# Altium integrated library MMZ1608S601ATA00.IntLib: 1 symbol
Pins are listed as number, name and electrical type; pins without a type are passive.

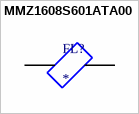
[diagram p0: symbol MMZ1608S601ATA00]

## MMZ1608S601ATA00
designator FL?
600 Ohms @ 100 MHz 1 Signal Line Ferrite Bead 0603 (1608 Metric) 500mA 400mOhm; MF: TDK; MP: MMZ1608S601ATA00; SnapEDA_Link: https://www.snapeda.com/parts/MMZ1608S601ATA00/TDK/view-part/?ref=snap; Package: 0603 TDK; Value: *; Check_prices: https://www.snapeda.com/parts/MMZ1608S601ATA00/TDK/view-part/?ref=eda
footprint BEADC1608X95N
pins: 1, 2